# Altium footprint library LiteOnLed.PcbLib: 2 footprints
Each footprint in its own frame and in the unit in brackets; x right, y up, seen from the top. Pads: shape width x height; smd on the part's side, far side on the other; paste and mask are expansions set on the pad; w line width, h text height; cw(c..) or ccw(c..) is an arc to the next point about the centre after c.
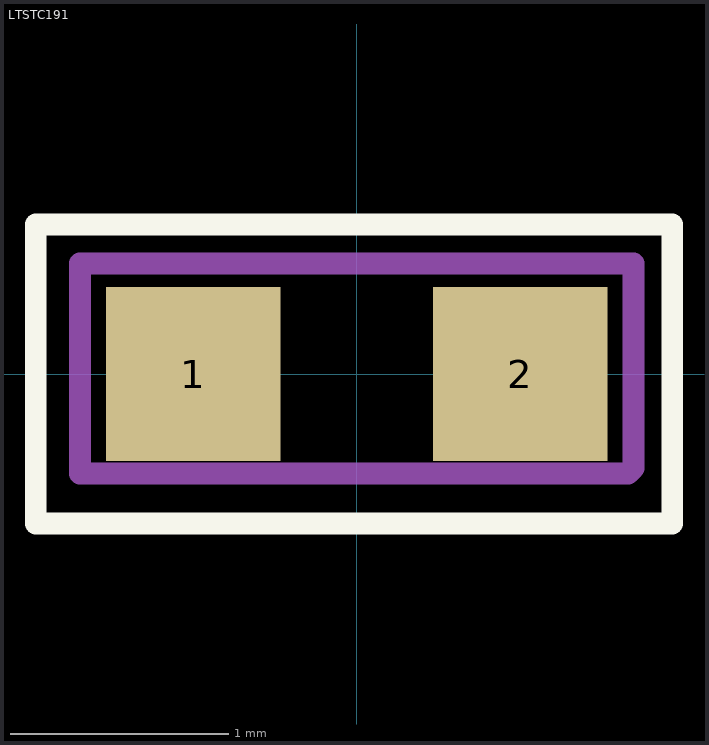
[diagram p0: the footprints below, top view; thin cyan lines are the x and y axes]

## LTST-C193TGKT-5A [mm] "LED estándar - SMD (montaje superficial) Green 525nm 90mcd 5mA"

## LTSTC191 [mm]
pads (2):
  rect 0.8x0.8 smd: 1(-0.75,0) 2(0.75,0)
Top Overlay:
  lines w0.1: -1.473,-0.686 -1.473,0.686 1.448,0.686 1.448,-0.686 -1.473,-0.686
Mechanical 29:
  lines w0.102: -1.27,-0.457 -1.27,0.508 1.27,0.508 1.27,-0.432 1.245,-0.457 -1.27,-0.457
  text ".Designator" at -1.041,-0.127 h0.38
3D body "User Library-LTST-C193KRKT.STEP": height 0.35, standoff 0, extent -0.79,-0.4 0.8,0.4